# Altium schematic symbol library MK66FX1M0VLQ18.SchLib: 2 symbols
Pins are listed as number, name and electrical type; pins without a type are passive.

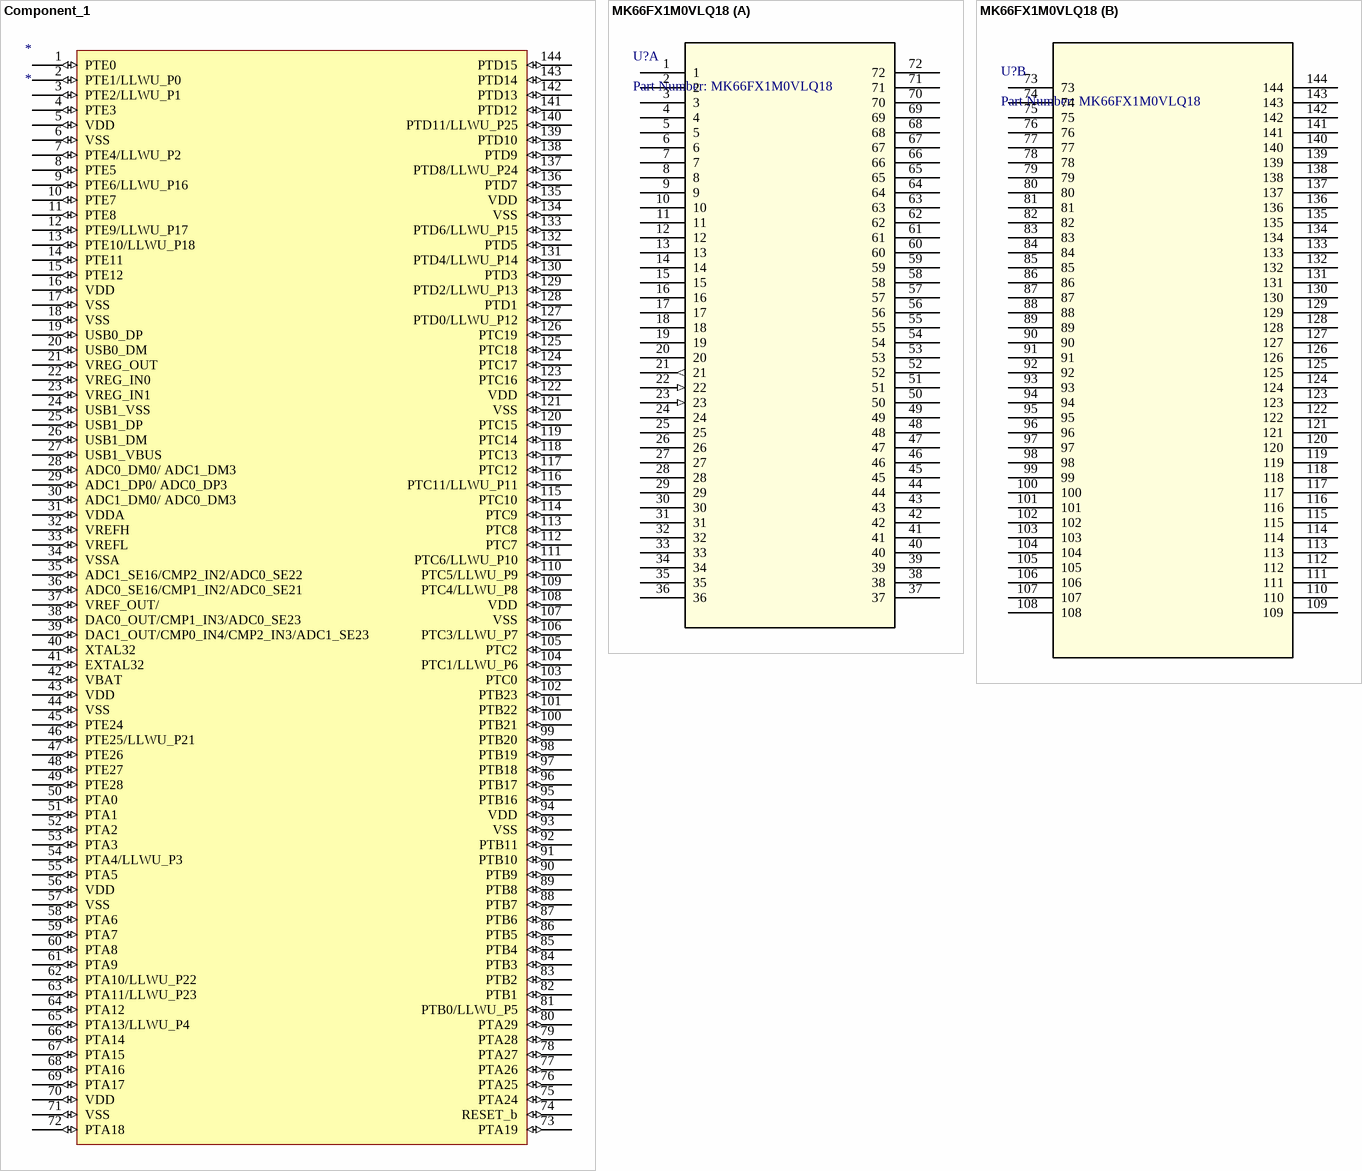
[diagram p0: symbols Component_1 to MK66FX1M0VLQ18]

## Component_1
designator *
pins: 1 PTE0 (io), 2 PTE1/LLWU_P0 (io), 3 PTE2/LLWU_P1 (io), 4 PTE3 (io), 5 VDD (io), 6 VSS (io), 7 PTE4/LLWU_P2 (io), 8 PTE5 (io), 9 PTE6/LLWU_P16 (io), 10 PTE7 (io), 11 PTE8 (io), 12 PTE9/LLWU_P17 (io), 13 PTE10/LLWU_P18 (io), 14 PTE11 (io), 15 PTE12 (io), 16 VDD (io), 17 VSS (io), 18 VSS (io), 19 USB0_DP (io), 20 USB0_DM (io), 21 VREG_OUT (io), 22 VREG_IN0 (io), 23 VREG_IN1 (io), 24 USB1_VSS (io), 25 USB1_DP (io), 26 USB1_DM (io), 27 USB1_VBUS (io), 28 ADC0_DM0/ ADC1_DM3 (io), 29 ADC1_DP0/ ADC0_DP3 (io), 30 ADC1_DM0/ ADC0_DM3 (io), 31 VDDA (io), 32 VREFH (io), 33 VREFL (io), 34 VSSA (io), 35 ADC1_SE16/CMP2_IN2/ADC0_SE22 (io), 36 ADC0_SE16/CMP1_IN2/ADC0_SE21 (io), 37 VREF_OUT/ (io), 38 DAC0_OUT/CMP1_IN3/ADC0_SE23 (io), 39 DAC1_OUT/CMP0_IN4/CMP2_IN3/ADC1_SE23 (io), 40 XTAL32 (io), 41 EXTAL32 (io), 42 VBAT (io), 43 VDD (io), 44 VSS (io), 45 PTE24 (io), 46 PTE25/LLWU_P21 (io), 47 PTE26 (io), 48 PTE27 (io), 49 PTE28 (io), 50 PTA0 (io), 51 PTA1 (io), 52 PTA2 (io), 53 PTA3 (io), 54 PTA4/LLWU_P3 (io), 55 PTA5 (io), 56 VDD (io), 57 VSS (io), 58 PTA6 (io), 59 PTA7 (io), 60 PTA8 (io), 61 PTA9 (io), 62 PTA10/LLWU_P22 (io), 63 PTA11/LLWU_P23 (io), 64 PTA12 (io), 65 PTA13/LLWU_P4 (io), 66 PTA14 (io), 67 PTA15 (io), 68 PTA16 (io), 69 PTA17 (io), 70 VDD (io), 71 VSS (io), 72 PTA18 (io), 73 PTA19 (io), 74 RESET_b (io), 75 PTA24 (io), 76 PTA25 (io), 77 PTA26 (io), 78 PTA27 (io), 79 PTA28 (io), 80 PTA29 (io), 81 PTB0/LLWU_P5 (io), 82 PTB1 (io), 83 PTB2 (io), 84 PTB3 (io), 85 PTB4 (io), 86 PTB5 (io), 87 PTB6 (io), 88 PTB7 (io), 89 PTB8 (io), 90 PTB9 (io), 91 PTB10 (io), 92 PTB11 (io), 93 VSS (io), 94 VDD (io), 95 PTB16 (io), 96 PTB17 (io), 97 PTB18 (io), 98 PTB19 (io), 99 PTB20 (io), 100 PTB21 (io), 101 PTB22 (io), 102 PTB23 (io), 103 PTC0 (io), 104 PTC1/LLWU_P6 (io), 105 PTC2 (io), 106 PTC3/LLWU_P7 (io), 107 VSS (io), 108 VDD (io), 109 PTC4/LLWU_P8 (io), 110 PTC5/LLWU_P9 (io), 111 PTC6/LLWU_P10 (io), 112 PTC7 (io), 113 PTC8 (io), 114 PTC9 (io), 115 PTC10 (io), 116 PTC11/LLWU_P11 (io), 117 PTC12 (io), 118 PTC13 (io), 119 PTC14 (io), 120 PTC15 (io), 121 VSS (io), 122 VDD (io), 123 PTC16 (io), 124 PTC17 (io), 125 PTC18 (io), 126 PTC19 (io), 127 PTD0/LLWU_P12 (io), 128 PTD1 (io), 129 PTD2/LLWU_P13 (io), 130 PTD3 (io), 131 PTD4/LLWU_P14 (io), 132 PTD5 (io), 133 PTD6/LLWU_P15 (io), 134 VSS (io), 135 VDD (io), 136 PTD7 (io), 137 PTD8/LLWU_P24 (io), 138 PTD9 (io), 139 PTD10 (io), 140 PTD11/LLWU_P25 (io), 141 PTD12 (io), 142 PTD13 (io), 143 PTD14 (io), 144 PTD15 (io)

## MK66FX1M0VLQ18
designator U?, comment Part Number: MK66FX1M0VLQ18
No Description Available; Vendor: NXP; Manufacturer_Part_Number: MK66FX1M0VLQ18; Copyright: Copyright (C) 2016 Accelerated Designs. All rights reserved; RefDes: RefDes; Type: DEV; Value: Value
footprint 98ASS23177W
part A pins: 1, 2, 3, 4, 5 (power), 6 (power), 7, 8, 9, 10, 11, 12, 13, 14, 15, 16 (power), 17 (power), 18 (power), 19, 20, 21 (out), 22 (in), 23 (in), 24 (power), 25, 26, 27, 28, 29, 30, 31 (power), 32 (power), 33 (power), 34 (power), 35, 36, 37, 38, 39, 40, 41, 42 (power), 43 (power), 44 (power), 45, 46, 47, 48, 49, 50, 51, 52, 53, 54, 55, 56 (power), 57 (power), 58, 59, 60, 61, 62, 63, 64, 65, 66, 67, 68, 69, 70 (power), 71 (power), 72
part B pins: 73, 74, 75, 76, 77, 78, 79, 80, 81, 82, 83, 84, 85, 86, 87, 88, 89, 90, 91, 92, 93 (power), 94 (power), 95, 96, 97, 98, 99, 100, 101, 102, 103, 104, 105, 106, 107 (power), 108 (power), 109, 110, 111, 112, 113, 114, 115, 116, 117, 118, 119, 120, 121 (power), 122 (power), 123, 124, 125, 126, 127, 128, 129, 130, 131, 132, 133, 134 (power), 135 (power), 136, 137, 138, 139, 140, 141, 142, 143, 144